# EAGLE library part WAGO_STECK_KLEMME_12 (library Stecker_Pins)
WAGO Steckklemme, 12pol
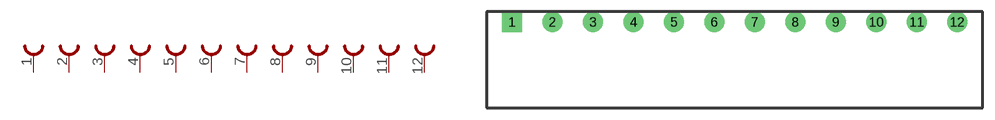
[diagram p12: symbol with the pads of WAGO_STECK_KLEMME_12; footprint WAGO_STECK_KLEMME_12]

Designator prefix J

## WAGO_STECK_KLEMME_12  [WAGO_STECK_KLEMME_12]
1  1  pas
2  2  pas
3  3  pas
4  4  pas
5  5  pas
6  6  pas
7  7  pas
8  8  pas
9  9  pas
10  10  pas
11  11  pas
12  12  pas

## Footprint WAGO_STECK_KLEMME_12 (pad centres in mm)
drill 0.8 pad 2.54 square: 1 -25.4,0
drill 0.8 pad 2.54: 2 -20.32,0; 3 -15.24,0; 4 -10.16,0; 5 -5.08,0; 6 0,0; 7 5.08,0; 8 10.16,0; 9 15.24,0; 10 20.32,0; 11 25.4,0; 12 30.48,0